# Altium footprint library HLK-PM.PcbLib: 1 footprints
Each footprint in its own frame and in the unit in brackets; x right, y up, seen from the top. Pads: shape width x height; smd on the part's side, far side on the other; paste and mask are expansions set on the pad; w line width, h text height; cw(c..) or ccw(c..) is an arc to the next point about the centre after c.
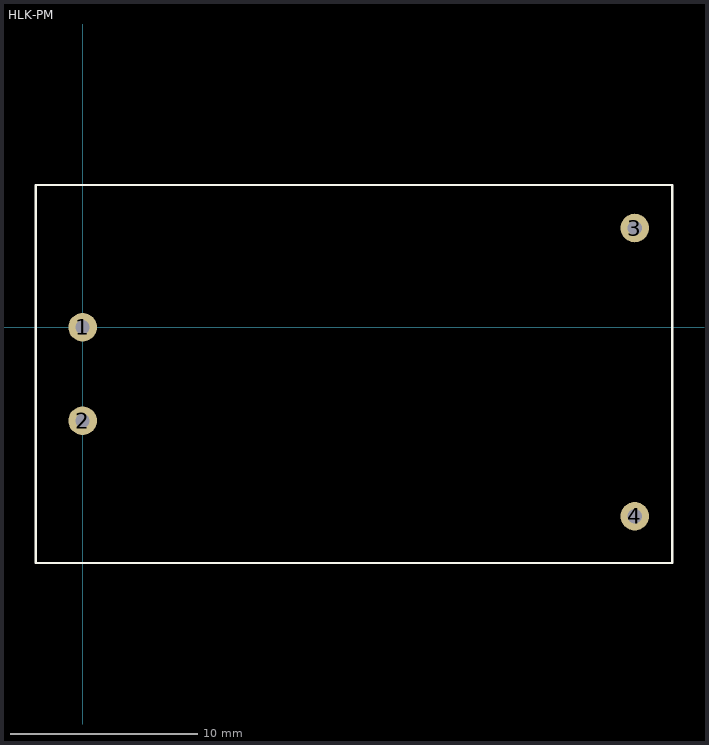
[diagram p0: the footprint, top view; thin cyan lines are the x and y axes]

## HLK-PM [mil] "Trans 220VAC-5/12/3,3 VDC"
height 590.55
pads (4):
  round 60 hole 30: 1(0,0) 2(0,-196.85) 3(1161.42,208.66) 4(1161.42,-397.64)
Top Overlay:
  lines w5: -98.43,-496.06 1240.16,-496.06 1240.16,299.21 -98.43,299.21 -98.43,-496.06